# Altium integrated library ENEL461_15.4.IntLib: 6 symbols
Pins are listed as number, name and electrical type; pins without a type are passive.

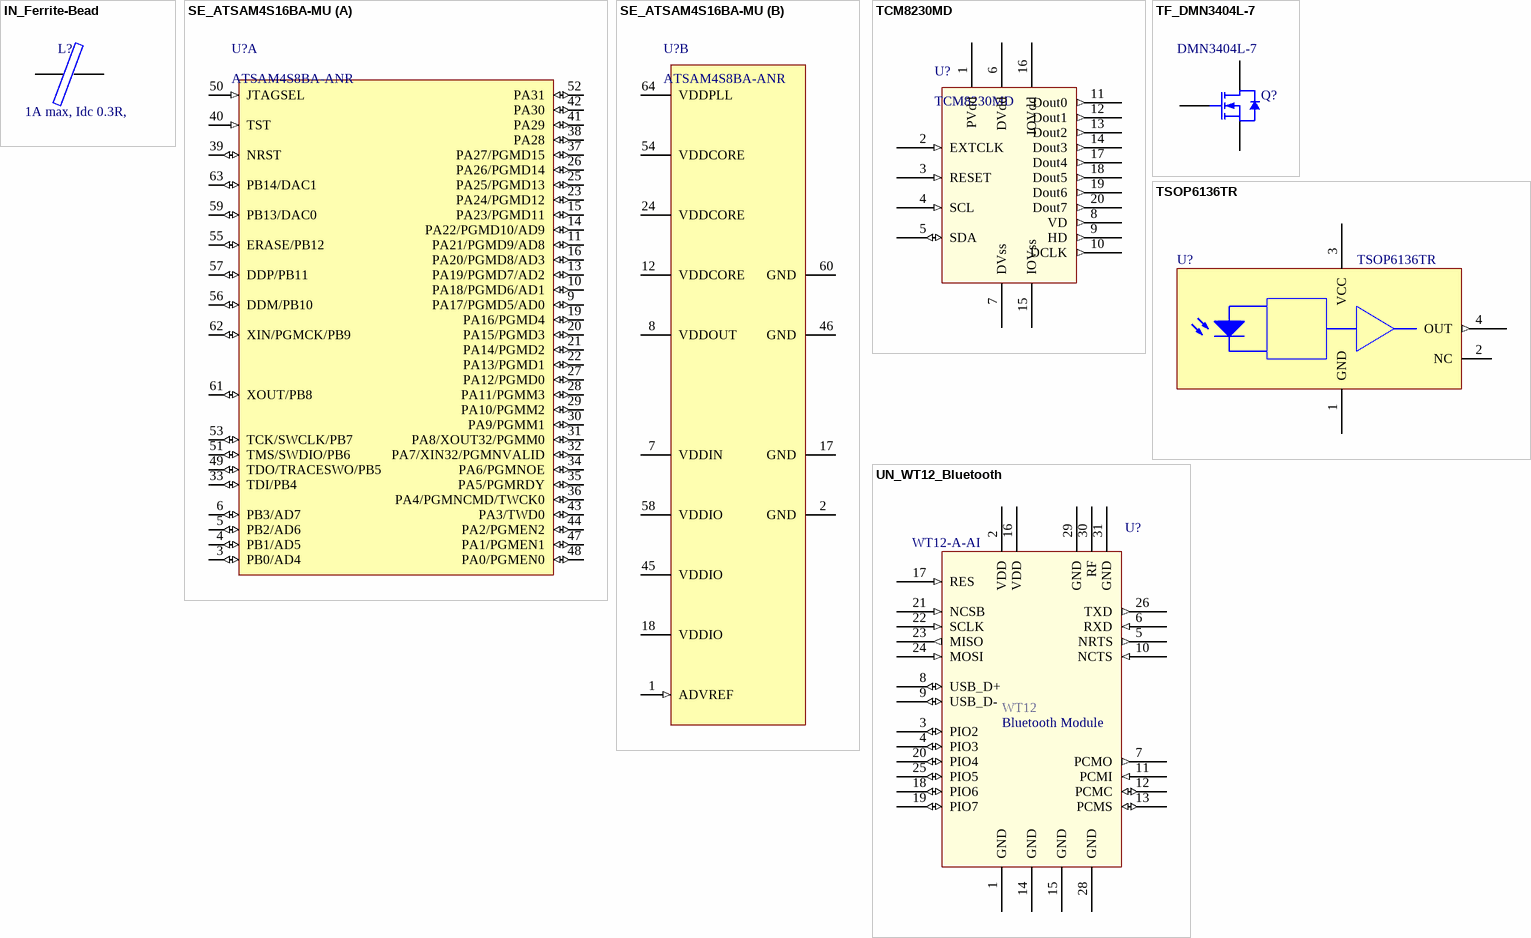
[diagram p0: symbols IN_Ferrite-Bead to UN_WT12_Bluetooth]

## IN_Ferrite-Bead
designator L?, comment 1A max, Idc 0.3R,
Ferrite Bead, Rdc 0.3R, Z100MHZ 600R, Imax 1A, SMD 1206; Manufacturer: FAIR-RITE; Manufacturer PN: 2512066017Y1; DC Current Rating: 1; DC Resistance Max: 0.08; Ferrite Case Style: 1206 ^3216 Metric]; Frequency Range: 50MHz to 1; Impedance: 600; Impedance Tolerance: ± 25%; Supplier: ECE Dept; Storage Location: PCB Assembly WS; Ferrite Mounting: SMD; Supplier 1: Farnell; Supplier Part Number 1: 1612060; Manufacturer Part Number: 2512066017Y1; Value: 1A max, Idc 0.3R,
signal-integrity model Inductor Isolated
footprint INDC3216L (Chip Inductor, Body 3.2x1.6mm, IPC High Density)
footprint INDC3216M (Chip Inductor, Body 3.2x1.6mm, IPC Low Density)
footprint INDC3216N (Chip Inductor, Body 3.2x1.6mm, IPC Medium Density)
pins: 1, 2

## SE_ATSAM4S16BA-MU
designator U?, comment ATSAM4S8BA-ANR
IC MCU 32BIT 512KB FLASH 64LQFP; Manufacturer: Atmel; Connectivity: I²C, IrDA, Memory Card, SPI, SSC, UART/USART, USB; Core Processor: ARM® Cortex®-M4; Core Size: 32-Bit; Data Converters: A/D 11x12b, D/A 2x12b; Number of I/O: 47; Peripherals: Brown-out Detect/Reset, DMA, POR, PWM, WDT; Program Memory Size: 512KB (512K x 8); RAM Size: 128K x 8; Speed: 120MHz; Voltage - Supply (Vcc/Vdd): 1.62 V ~ 3.6 V; PackageVersion: revJ, Jul-2007; PackageReference: 64PS; PackageDescription: 64-Pin Quad Flat No-Lead (QFN) Sawn, 9 x 9 x 1.0 mm Body, 0.5 mm Pitch, Exposed Pad; Code_JEDEC: MO-220VMMD-3; ComponentLink1Description: Manufacturer URL; ComponentLink1URL: http://www.atmel.com/; ComponentLink2Description: SAM4S Series Datasheet; ComponentLink2URL: http://www.atmel.com/dyn/resources/prod_documents/11100.pdf; ComponentLink3Description: SAM4S Series Summary; ComponentLink3URL: http://www.atmel.com/dyn/resources/prod_documents/11100S.pdf; Supplier 1: Digi-Key; Package / Case: 64-LQFP; Packaging: Cut Tape (CT); Program Memory Type: FLASH; Supplier Part Number 1: ATSAM4S8BA-ANRCT-ND; Manufacturer Part Number: ATSAM4S8BA-ANR
footprint LQFP64_L (Thin QFP, 64-Leads, Body 10x10mm, Pitch 0.5mm, IPC High Density)
part A pins: 3 PB0/AD4 (io), 4 PB1/AD5 (io), 5 PB2/AD6 (io), 6 PB3/AD7 (io), 9 PA17/PGMD5/AD0 (io), 10 PA18/PGMD6/AD1 (io), 11 PA21/PGMD9/AD8 (io), 13 PA19/PGMD7/AD2 (io), 14 PA22/PGMD10/AD9 (io), 15 PA23/PGMD11 (io), 16 PA20/PGMD8/AD3 (io), 19 PA16/PGMD4 (io), 20 PA15/PGMD3 (io), 21 PA14/PGMD2 (io), 22 PA13/PGMD1 (io), 23 PA24/PGMD12 (io), 25 PA25/PGMD13 (io), 26 PA26/PGMD14 (io), 27 PA12/PGMD0 (io), 28 PA11/PGMM3 (io), 29 PA10/PGMM2 (io), 30 PA9/PGMM1 (io), 31 PA8/XOUT32/PGMM0 (io), 32 PA7/XIN32/PGMNVALID (io), 33 TDI/PB4 (io), 34 PA6/PGMNOE (io), 35 PA5/PGMRDY (io), 36 PA4/PGMNCMD/TWCK0 (io), 37 PA27/PGMD15 (io), 38 PA28 (io), 39 NRST (io), 40 TST (in), 41 PA29 (io), 42 PA30 (io), 43 PA3/TWD0 (io), 44 PA2/PGMEN2 (io), 47 PA1/PGMEN1 (io), 48 PA0/PGMEN0 (io), 49 TDO/TRACESWO/PB5 (io), 50 JTAGSEL (in), 51 TMS/SWDIO/PB6 (io), 52 PA31 (io), 53 TCK/SWCLK/PB7 (io), 55 ERASE/PB12 (io), 56 DDM/PB10 (io), 57 DDP/PB11 (io), 59 PB13/DAC0 (io), 61 XOUT/PB8 (io), 62 XIN/PGMCK/PB9 (io), 63 PB14/DAC1 (io)
part B pins: 1 ADVREF (in), 2 GND (power), 7 VDDIN (power), 8 VDDOUT (power), 12 VDDCORE (power), 17 GND (power), 18 VDDIO (power), 24 VDDCORE (power), 45 VDDIO (power), 46 GND (power), 54 VDDCORE (power), 58 VDDIO (power), 60 GND (power), 64 VDDPLL (power)

## TCM8230MD
designator U?
Toshiba I2C Camera; Manufacturer: Toshiba; Manufacturers PN: TCM8230MD; Supplier 1: Spark Fun; Supplier 1 PN: 8667
footprint TCM8230MD (Toshiba VGA Camera Module)
pins: 1 PVdd (power), 2 EXTCLK (in), 3 RESET (in), 4 SCL (in), 5 SDA (io), 6 DVdd (power), 7 DVss (power), 8 VD (out), 9 HD (out), 10 DCLK (out), 11 Dout0 (out), 12 Dout1 (out), 13 Dout2 (out), 14 Dout3 (out), 15 IOVss (power), 16 IOVdd (power), 17 Dout4 (out), 18 Dout5 (out), 19 Dout6 (out), 20 Dout7 (out)

## TF_DMN3404L-7
designator Q?, comment DMN3404L-7
DIODES INC. - DMN3404L-7 - MOSFET,N CH,30V,5.8A,SOT-23; Current Id Max: 5.8; Drain Source Voltage Vds: 30; On Resistance Rds(on): 24; Power Dissipation Pd: 1.4; Rds(on) Test Voltage Vgs: 10; Transistor Polarity: N Channel; Voltage Vgs Max: 20; Manufacturer: DIODES INC.; Transistor Case Style: SOT-23; ComponentLink1URL: http://www.diodes.com/datasheets/ds31787.pdf; ComponentLink1Description: http://www.diodes.com/datasheets/ds31787.pdf; Pricing: 1=0.246, 25=0.206, 100=0.175, 250=0.159, 500=0.138, 1000=0.138 (NZD); Supplier 1: Farnell; Supplier Part Number 1: 1858601; Manufacturer Part Number: DMN3404L-7
3D model sot23 (PCB3D Model)
footprint SOT23-3N (SOT23, 3-Leads, Body 2.9x1.3mm, Pitch 0.95mm, Lead Span 2.3mm, IPC Medium Density)
pins: 1 G, 2 S, 3 D

## TSOP6136TR
designator U?
Infrared Receiver 36KHz; Manufacturer: Vishay Semiconductor Opto Division; Description: SMD PH.MODULE 36KHZ S.VIEW; Supplier 1: Farnell; Supplier Part Number 1: 1779685; Manufacturers PN: TSOP6136TR; Manufacturer Part Number: TSOP6136TR; Supplier 2: Digi-Key; Supplier Part Number: TSOP6136TR-ND; Supplier Part Number 2: TSOP6136TR-ND
footprint TSOP61
pins: 1 GND (power) "Ground", 2 NC "No internal connection", 3 VCC (power) "Supply Voltage", 4 OUT (out) "Received Data Output, Open Collector. No external pull-up or pull-down resistor required. Output data invalid during transmission."

## UN_WT12_Bluetooth
designator U?, comment value WT12  (hidden comment: WT12-A-AI)
BLUEGIGA - WT12-A-AI - BLUETOOTH MOD, V2.1, CLASS 2, 3MBPS; Part Number: WT12-A-AI3; Order multiple: 1; Physical Interfaces: UART, USB; Supply Voltage Range: 3.2V to 3.4; price: 71.61; Supplier_Name: Element 14; published: 15/02/2010; Supplier_Component_Code: 1656896; Manufacturer: BLUEGIGA; Supplier 1: Farnell; ComponentLink1URL: http://www.bluegiga.com/files/bluegiga/Pub%20files/WT12_Product_Brief_lores.pdf; ComponentLink1Description: http://www.bluegiga.com/files/bluegiga/Pub%20files/WT12_Product_Brief_lores.pdf; Pricing: 1=69.22, 2=66.04, 10=57.4 (NZD); Supplier Part Number 1: 1704779; Manufacturer Part Number: WT12-A-AI
footprint WT12_Bluetooth (WT12 Bluetooth Module)
pins: 1 GND (power) "Digital ground", 2 VDD (power) "Digital ground", 3 PIO2 (io), 4 PIO3 (io), 5 NRTS (out) "Serial data output", 6 RXD (in) "Chip select / conversion start", 7 PCMO (out), 8 USB_D+ (io), 9 USB_D- (io), 10 NCTS (in) "Chip select / conversion start", 11 PCMI (in), 12 PCMC (io), 13 PCMS (io), 14 GND (power) "Digital ground", 15 GND (power) "Digital ground", 16 VDD (power) "Digital ground", 17 RES (in) "Chip select / conversion start", 18 PIO6 (io), 19 PIO7 (io), 20 PIO4 (io), 21 NCSB (in), 22 SCLK (in), 23 MISO (out), 24 MOSI (in), 25 PIO5 (io), 26 TXD (out) "Serial data output", 28 GND (power) "Digital ground", 29 GND (power) "Digital ground", 30 RF (power) "Digital ground", 31 GND (power) "Digital ground"
text: Bluetooth Module